# Altium footprint library batteryBodies.PcbLib: 11 footprints
Each footprint in its own frame and in the unit in brackets; x right, y up, seen from the top. Pads: shape width x height; smd on the part's side, far side on the other; paste and mask are expansions set on the pad; w line width, h text height; cw(c..) or ccw(c..) is an arc to the next point about the centre after c.
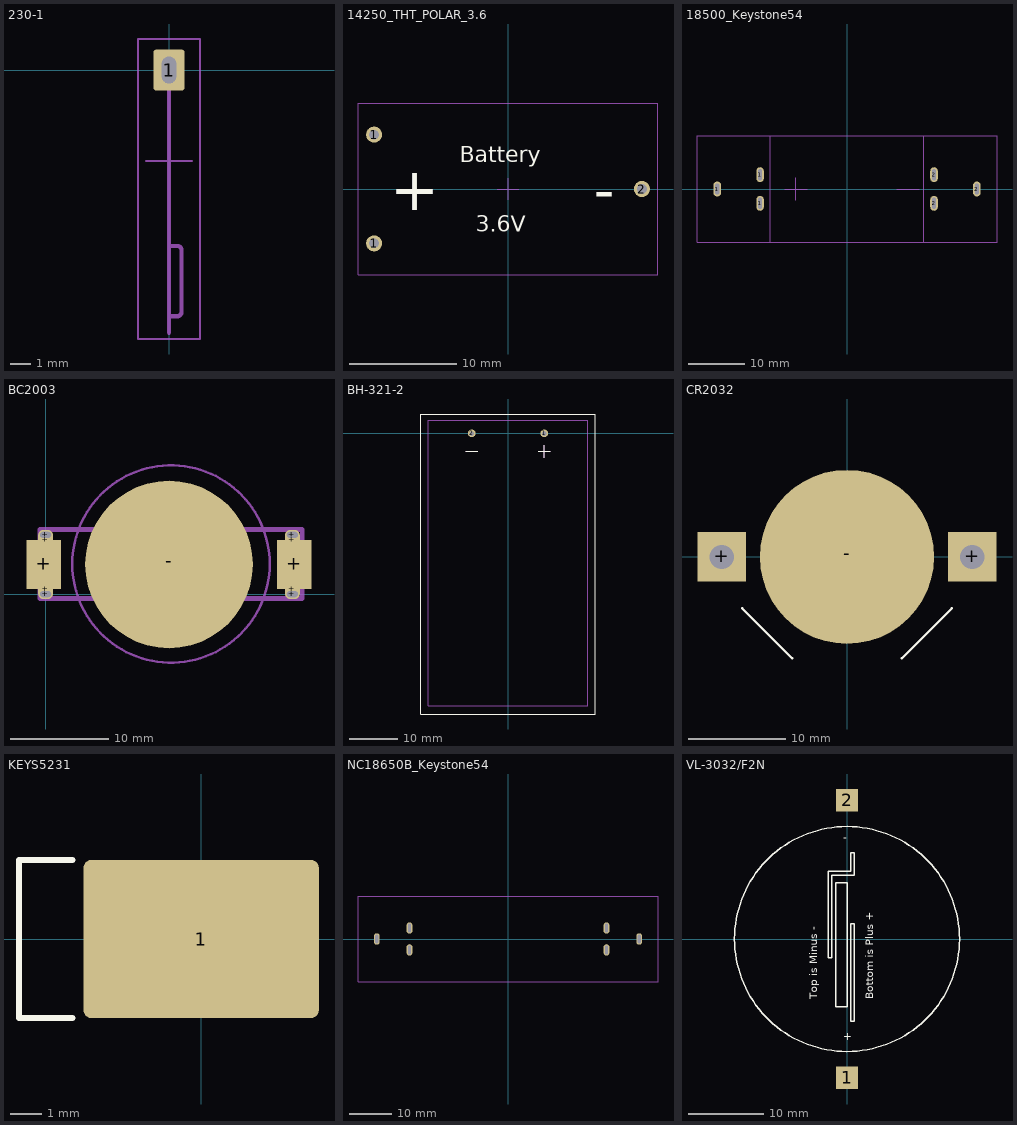
[diagram p0: the footprints below, top view; thin cyan lines are the x and y axes]

## 23A battery [mm]
3D body: height 5, standoff -5, extent -13,-5 14,5
3D body: height 3, standoff -3, extent -14,-3 -13,3

## 230-1 [mm] "Keystone 230-1 battery holder, 1 pin"
height 5
pads (1):
  rrect20% 1.5x2 hole 0.7 slot 1.3 at 90 deg: 1(0,0)
Mechanical 13:
  lines w0.1: -1.1,-4.4 1.1,-4.4
  lines w0.2: 0,-12.7 0,0.5 ; 0,-11.9 0.4,-11.9 ccw(c0.4,-11.7) 0.6,-11.7 0.6,-8.7 ccw(c0.4,-8.7) 0.4,-8.5 0,-8.5
  text "edge" at 0.3,-4.2 h0.4
  text "PCB" at -1,-4.2 h0.4
Mechanical 15:
  lines w0.1: -1.5,-13 -1.5,1.5 1.5,1.5 1.5,-13 -1.5,-13
3D body: height 5, standoff -1.4, extent -0.1,-0.6 0.1,0.6
3D body: height 2.4, standoff 0, extent -0.1,-4.4 0.1,-0.6
3D body: height 5, standoff -1.4, extent -0.1,-12.8 0.1,-4.4

## 14250_THT_POLAR_3.6 [mm] "14250, 3.6V, LiSOCl2"
pads (3):
  round 1.5 hole 0.9: 1(-12.5,-5.075) 1(-12.5,5.075) 2(12.5,0)
Top Overlay:
  text "-" at 8,-2 h4
  text "+" at -11,-2 h4
  text "Battery" at -4.5,2.5 h1.5
  text "3.6V" at -3,-4 h1.5
Mechanical 15:
  lines w0.1: -1,0 1,0 ; 0,-1 0,1 ; -14,-8 14,-8 14,8 -14,8 -14,-8
3D body: height 15.15, standoff -4.02, extent -12.625,-7.25 12.625,7.25

## 18500_Keystone54 [mm]
pads (6):
  oval 1.35x2.65 hole 0.65 slot 1.95 at 90 deg: 1(-23.112,0) 1(-15.487,-2.55) 1(-15.487,2.55) 2(15.488,-2.55) 2(15.488,2.55) 2(23.113,0)
Mechanical 1:
  lines w0.2: -11.112,0 -7.112,0 ; -9.112,-2 -9.112,2 ; 8.888,0 12.888,0 ; -13.715,-9.441 -13.715,9.444 ; -13.715,-9.441 -26.719,-9.441 -26.719,9.444 -13.715,9.444 ; -13.715,-9.441 -13.715,-9.444 13.7,-9.444 ; -13.715,9.444 13.7,9.444 13.7,9.442 ; 13.7,-9.444 13.7,9.442 ; 13.7,-9.444 26.704,-9.444 26.704,9.442 13.7,9.442
  text "Battery 18500" at -9.112,-6 h1.52
3D body: height 18.16, standoff -3.05, extent 13.7,-9.444 26.704,9.442
3D body: height 18.16, standoff -3.05, extent -26.719,-9.441 -13.715,9.444

## BC2003 [mm]
pads (15):
  rect 3.5x5 smd: +(-0.2,3) +(25.2,3)
  oval 1.5x1 hole 0.6 slot 1.1 at 0 deg: +(0,0) +(0,6) +(25,6) +(25,0)
  oval 1.5x1 on Top Paste: +(0,0) +(0,6) +(25,6) +(25,0)
  rect 1.5x1 smd: +(0,0.5) +(0,5.5) +(25,0.5) +(25,5.5)
  round 17 smd paste-10: -(12.5,3)
Mechanical 15:
  circle w0.254: c12.7,3.05 r10
  lines w0.5: -0.6,-0.45 -0.6,6.55 26,6.55 26,-0.45 -0.6,-0.45

## BH-321-2 [mm] "Battery holder, 2xAA, THT"
height 15
pads (2):
  round 1.6 hole 1: 1(7.5,0) 2(-7.5,0)
Top Overlay:
  lines w0.2: -8.75,-3.75 -6.25,-3.75 ; 6.25,-3.75 8.75,-3.75 ; 7.5,-5 7.5,-2.5 ; -18,-58 -18,4 18,4 18,-58 -18,-58
Mechanical 13:
  lines w0.2: -8.75,-3.75 -6.25,-3.75 ; 6.25,-3.75 8.75,-3.75 ; 7.5,-5 7.5,-2.5 ; -16.5,-56.25 -16.5,2.75 16.5,2.75 16.5,-56.25 -16.5,-56.25
3D body: height 15.04, standoff 0.02, extent -15.596,-55.6 15.596,2

## CR2032 [mm]
pads (3):
  rect 5x5.1 hole 2.5: +(-12.95,0) +(12.95,0)
  round 18 smd: -(0,0)
Top Overlay:
  lines w0.254: -10.825,-5.325 -5.675,-10.475 ; 5.675,-10.475 10.825,-5.325
3D body: height 3.96, standoff 0, extent -15.342,-10.274 15.392,9.779

## D battery [mm]
height 33
3D body: height 33.54, standoff 0.46, extent -31.026,-16.5 31.026,16.571

## KEYS5231 [mm]
height 14
pads (1):
  rrect10% 7.6x5.1 smd: 1(0,0)
Top Overlay:
  lines w0.2: -4.15,-2.55 -5.875,-2.55 -5.875,2.55 -4.15,2.55
3D body: height 14.45, standoff 0, extent -11.386,-2.54 3.6,2.54

## NC18650B_Keystone54 [mm]
pads (6):
  oval 1.35x2.65 hole 0.65 slot 1.95 at 90 deg: 1(-30.612,0) 1(-22.987,-2.55) 1(-22.987,2.55) 2(22.988,-2.55) 2(22.988,2.55) 2(30.613,0)
Mechanical 15:
  lines w0.2: -35,-10 35,-10 35,10 -35,10 -35,-10
3D body: height 19.82, standoff 1.52, extent -32.505,-9.15 32.495,9.15
3D body: height 18.16, standoff -3.05, extent 21.204,-9.444 34.208,9.442
3D body: height 18.16, standoff -3.05, extent -34.219,-9.441 -21.215,9.444

## VL-3032/F2N [mm]
pads (2):
  rrect10% 3x3 smd: 1(0,-18.5) 2(0,18.5)
Top Overlay:
  circle w0.2: c0,0 r15
  lines w0.2: -0.5,-9 0,-9 ; 0,-9 -1.5,-9 -1.5,7.5 0,7.5 0,-9 ; -2.5,-2.5 -2,-2.5 -2,8.5 1,8.5 1,11.5 0.5,11.5 0.5,9 -2.5,9 -2.5,-2.5 ; 0.5,-11 0.5,2 1,2 1,-11 0.5,-11
  text "Bottom is Plus +" at 3.5,-8 h1
  text "Top is Minus -" at -4,-8 h1
  text "-" at -0.5,13 h1
  text "+" at -0.5,-13.5 h1
3D body: height 3.5, standoff 3.35, extent -1.5,-2 1.5,16
3D body: height 3.35, standoff 0, extent -1.5,15.5 1.5,16
3D body: height 0.15, standoff 0, extent -1.5,15.5 1.5,20
3D body: height 0.15, standoff 0, extent -1.5,-20 1.5,1.5
3D body: height 3.35, standoff 0.15, extent -15,-14.996 15,14.996